# Altium schematic symbol library irf.SchLib: 1 symbol
Pins are listed as number, name and electrical type; pins without a type are passive.

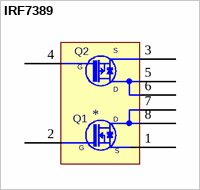
[diagram p0: symbol IRF7389]

## IRF7389
designator Q?
footprint SO-8
pins: 1 S-N, 2 G-N, 3 S-P, 4 G-P, 5 D-P, 6 D-P, 7 D-N, 8 D-N
text: Q2; S; G; D; Q1